# Altium footprint library 87427-0602.PcbLib: 1 footprints
Each footprint in its own frame and in the unit in brackets; x right, y up, seen from the top. Pads: shape width x height; smd on the part's side, far side on the other; paste and mask are expansions set on the pad; w line width, h text height; cw(c..) or ccw(c..) is an arc to the next point about the centre after c.
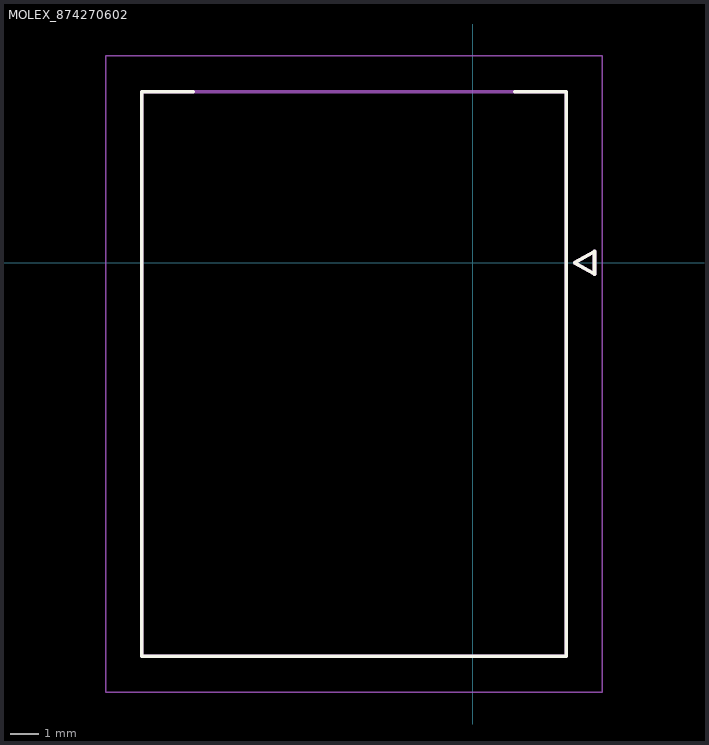
[diagram p0: the footprint, top view; thin cyan lines are the x and y axes]

## MOLEX_874270602 [mm]
Top Overlay:
  lines w0.127: -9.876,6.04 -11.7,6.04 -11.7,-13.9 3.3,-13.9 3.3,6.04 1.476,6.04 ; 3.597,0 4.297,-0.4 4.297,0.4 3.597,0
Mechanical 13:
  lines w0.127: -11.7,-13.9 3.3,-13.9 3.3,6.04 -11.7,6.04 -11.7,-13.9 ; 3.597,0 4.297,-0.4 4.297,0.4 3.597,0
Mechanical 15:
  lines w0.05: -12.97,-15.17 4.57,-15.17 4.57,7.31 -12.97,7.31 -12.97,-15.17